# Altium footprint library MOSFET_8HSOF.PcbLib: 1 footprints
Each footprint in its own frame and in the unit in brackets; x right, y up, seen from the top. Pads: shape width x height; smd on the part's side, far side on the other; paste and mask are expansions set on the pad; w line width, h text height; cw(c..) or ccw(c..) is an arc to the next point about the centre after c.
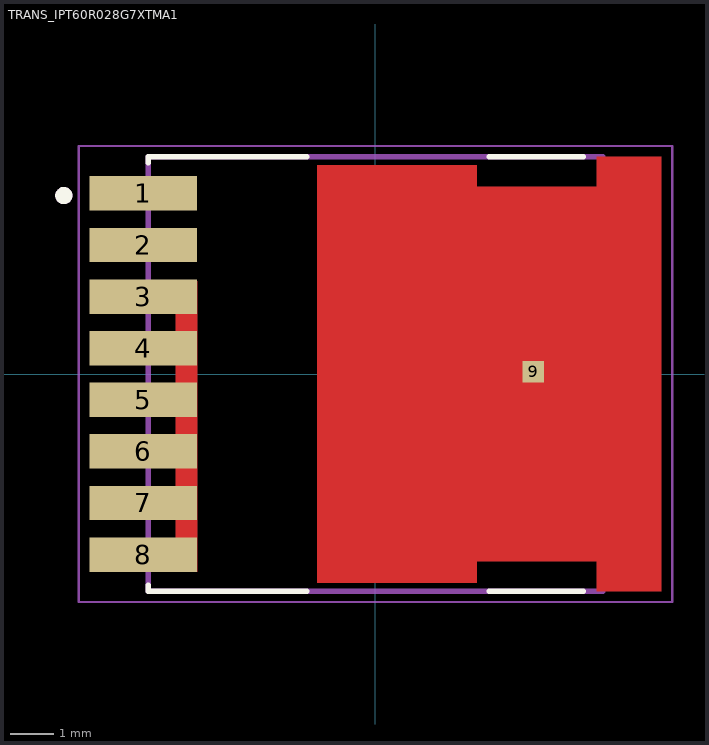
[diagram p0: the footprint, top view; thin cyan lines are the x and y axes]

## TRANS_IPT60R028G7XTMA1 [mm]
pads (9):
  rect 2.5x0.8 smd paste-2: 1(-5.4,4.2) 2(-5.4,3) 3(-5.4,1.8) 4(-5.4,0.6) 5(-5.4,-0.6) 6(-5.4,-1.8) 7(-5.4,-3) 8(-5.4,-4.2)
  rect 0.5x0.5 smd paste-1 mask+0: 9(3.665,0.05)
Top Layer:
  region: 6.65,-5.05 5.15,-5.05 5.15,-4.35 2.35,-4.35 2.35,-4.85 -1.35,-4.85 -1.35,4.85 2.35,4.85 2.35,4.35 5.15,4.35 5.15,5.05 6.65,5.05
  region: -4.15,-4.6 -4.65,-4.6 -4.65,2.159 -4.15,2.159
Top Overlay:
  circle w0.2: c-7.25,4.15 r0.1
  lines w0.127: -5.29,-4.914 -5.29,-5.05 -1.6,-5.05 ; -5.29,4.914 -5.29,5.05 -1.6,5.05 ; 2.65,-5.05 4.83,-5.05 ; 2.65,5.05 4.83,5.05
Top Paste:
  circle w0: c5.805,4.2 r0.5
  circle w0: c5.805,-4.2 r0.5
  circle w0: c5.805,-3 r0.5
  circle w0: c5.805,-1.8 r0.5
  circle w0: c5.805,-0.6 r0.5
  circle w0: c5.805,0.6 r0.5
  circle w0: c5.805,1.8 r0.5
  circle w0: c5.805,3 r0.5
  circle w0: c4.605,-3 r0.5
  circle w0: c3.405,-3 r0.5
  circle w0: c2.205,-3 r0.5
  circle w0: c4.605,-1.8 r0.5
  circle w0: c3.405,-1.8 r0.5
  circle w0: c2.205,-1.8 r0.5
  circle w0: c4.605,-0.6 r0.5
  circle w0: c3.405,-0.6 r0.5
  circle w0: c2.205,-0.6 r0.5
  circle w0: c4.605,0.6 r0.5
  circle w0: c3.405,0.6 r0.5
  circle w0: c2.205,0.6 r0.5
  circle w0: c4.605,1.8 r0.5
  circle w0: c3.405,1.8 r0.5
  circle w0: c2.205,1.8 r0.5
  circle w0: c4.605,3 r0.5
  circle w0: c3.405,3 r0.5
  circle w0: c2.205,3 r0.5
  circle w0: c1.005,-4.2 r0.5
  circle w0: c1.005,-3 r0.5
  circle w0: c1.005,-1.8 r0.5
  circle w0: c1.005,-0.6 r0.5
  circle w0: c1.005,0.6 r0.5
  circle w0: c1.005,1.8 r0.5
  circle w0: c1.005,3 r0.5
  circle w0: c1.005,4.2 r0.5
  circle w0: c-0.195,-4.2 r0.5
  circle w0: c-0.195,-3 r0.5
  circle w0: c-0.195,-1.8 r0.5
  circle w0: c-0.195,4.2 r0.5
  circle w0: c-0.195,3 r0.5
  circle w0: c-0.195,1.8 r0.5
  circle w0: c-0.195,-0.6 r0.5
  circle w0: c-0.195,0.6 r0.5
  region: -5.05,-5.375 -5.75,-5.375 -5.75,-3.025 -5.05,-3.025
  region: -5.05,-4.175 -5.75,-4.175 -5.75,-1.825 -5.05,-1.825
  region: -5.05,-2.975 -5.75,-2.975 -5.75,-0.625 -5.05,-0.625
  region: -5.05,-1.775 -5.75,-1.775 -5.75,0.575 -5.05,0.575
  region: -5.05,3.025 -5.75,3.025 -5.75,5.375 -5.05,5.375
  region: -5.05,1.825 -5.75,1.825 -5.75,4.175 -5.05,4.175
  region: -5.05,0.625 -5.75,0.625 -5.75,2.975 -5.05,2.975
  region: -5.05,-0.575 -5.75,-0.575 -5.75,1.775 -5.05,1.775
Top Solder:
  region: -0.9,-1.55 -7.9,-1.55 -7.9,-0.85 -0.9,-0.85
  region: 2.45,-4.95 -1.45,-4.95 -1.45,4.95 2.45,4.95
  region: 5.05,-4.45 2.45,-4.45 2.45,4.45 5.05,4.45
  region: 6.75,-5.15 5.05,-5.15 5.05,5.15 6.75,5.15
Mechanical 13:
  circle w0.2: c-7.25,4.15 r0.1
  lines w0.127: -5.29,-5.05 -5.29,5.05 5.29,5.05 5.29,-5.05 -5.29,-5.05
Mechanical 15:
  lines w0.05: -6.9,-5.3 -6.9,5.3 6.9,5.3 6.9,-5.3 -6.9,-5.3
3D body "IPT60R028G7XTMA1.STEP": height 2.38, standoff -0.02, extent -5.307,-4.95 6.373,4.95